# EAGLE library part MIKROE_CLICK_UPGRADE (library mikrobus_lib)
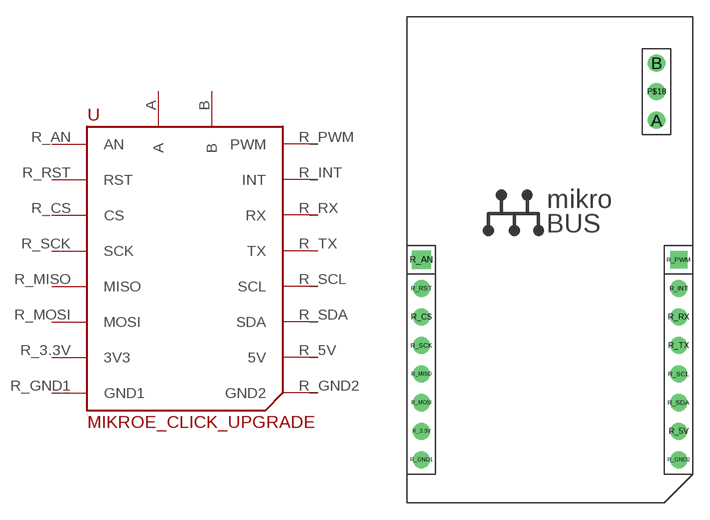
[diagram p2: symbol with the pads of MIKROE_BUS_MIDI_UPGRADE; footprint MIKROE_BUS_MIDI_UPGRADE]

Designator prefix -

## MIKROE_CLICK_UPGRADE  [MIKROE_BUS_MIDI_UPGRADE]
A  A
B  B
R_3.3V  3V3
R_5V  5V
R_AN  AN
R_CS  CS
R_GND1  GND1
R_GND2  GND2
R_INT  INT
R_MISO  MISO
R_MOSI  MOSI
R_PWM  PWM
R_RST  RST
R_RX  RX
R_SCK  SCK
R_SCL  SCL
R_SDA  SDA
R_TX  TX

## Footprint MIKROE_BUS_MIDI_UPGRADE (pad centres in mm)
drill 0.889 pad 1.524: A 22.174,33.997; B 22.174,39.077; P$18 22.174,36.537; R_3.3V 1.27,6.35; R_5V 24.13,6.35; R_CS 1.27,16.51; R_GND1 1.27,3.81; R_GND2 24.13,3.81; R_INT 24.13,19.05; R_MISO 1.27,11.43; R_MOSI 1.27,8.89; R_RST 1.27,19.05; R_RX 24.13,16.51; R_SCK 1.27,13.97; R_SCL 24.13,11.43; R_SDA 24.13,8.89; R_TX 24.13,13.97
drill 0.889 pad 1.676 square: R_AN 1.27,21.59
drill 0.889 pad 1.524 square: R_PWM 24.13,21.59